# EAGLE library part 64901421022 (library Wire_to_Board_Connectors_rev15d)
WR-MPC4-4.20mm Male Dual Row Angled Header with Mounting Flanges for Screw-in Retention,14 pins=>Code : Con_WTB_MPC4_2_PCB_64901421022 <http://katalog.we-online.de/media/thumbs2/eican/thb_Con_WTB_MPC4_2_PCB_6490xx21022_pf2.jpg> Details see: http://katalog.we-online.de/en/em/649_0xx_210_22 Created 2014-06-06, Karrer Zheng 2014 (C) Würth Elektronik
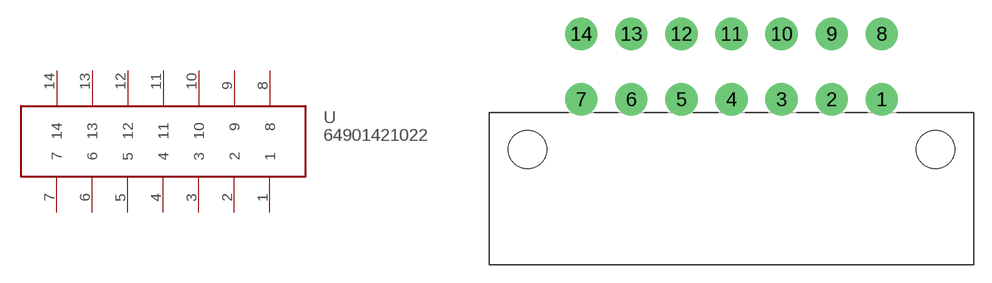
[diagram p295: symbol with the pads of 64901421022; footprint 64901421022]

Designator prefix -

## 64901421022  [64901421022]
1  1
2  2
3  3
4  4
5  5
6  6
7  7
8  8
9  9
10  10
11  11
12  12
13  13
14  14

## Footprint 64901421022 (pad centres in mm)
WR-MPC4-4.20mm Male Dual Row Angled Header with Mounting Flanges for Screw-in Retention,14 pins
drill 1.8: 1 12.6,4.2; 2 8.4,4.2; 3 4.2,4.2; 4 0,4.2; 5 -4.2,4.2; 6 -8.4,4.2; 7 -12.6,4.2; 8 12.6,9.7; 9 8.4,9.7; 10 4.2,9.7; 11 0,9.7; 12 -4.2,9.7; 13 -8.4,9.7; 14 -12.6,9.7
hole 3.2 at -17.1,0
hole 3.2 at 17.1,0